# Altium integrated library Diode_SMD_M7.IntLib: 1 symbol
Pins are listed as number, name and electrical type; pins without a type are passive.

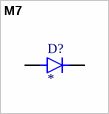
[diagram p0: symbol M7]

## M7
designator D?
MF: {'manufacturer': u'Diotec Semiconductor'}; MP: M7; Package: None; Price: None; Value: *; Availability: Unavailable
footprint DIO_M7
pins: A, C K